# Altium footprint library ZXTN19100CZTA.PcbLib: 1 footprints
Each footprint in its own frame and in the unit in brackets; x right, y up, seen from the top. Pads: shape width x height; smd on the part's side, far side on the other; paste and mask are expansions set on the pad; w line width, h text height; cw(c..) or ccw(c..) is an arc to the next point about the centre after c.
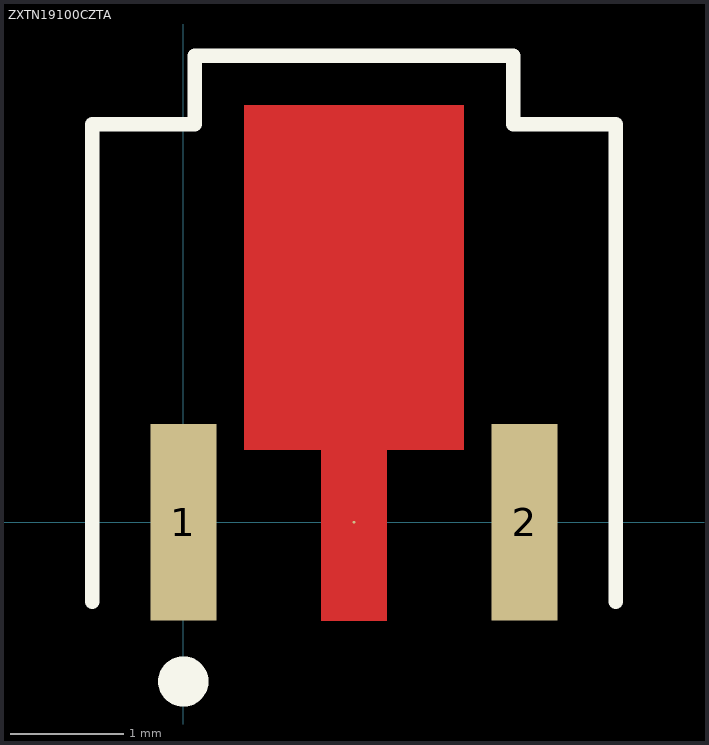
[diagram p0: the footprint, top view; thin cyan lines are the x and y axes]

## ZXTN19100CZTA [mm]
pads (3):
  rect 0.58x1.73 smd mask+0.1: 1(0,0) 2(3,0)
  round 0.025 smd mask+0.1: 3(1.5,0)
Top Layer:
  region: 2.467,0.635 2.467,3.665 0.533,3.665 0.533,0.635 1.21,0.635 1.79,0.635 1.79,-0.865 1.21,-0.865 1.21,0.635
Top Overlay:
  circle w0.254: c0,-1.4 r0.094
  lines w0.127: -0.8,-0.7 -0.8,3.5 0.1,3.5 0.1,4.1 2.9,4.1 2.9,3.5 3.8,3.5 3.8,-0.7
Mechanical 15:
  lines w0.127: 1.3,1.7 1.5,1.7 ; 1.5,1.5 1.5,1.7 ; 1.5,1.9 1.5,1.7 ; 1.7,1.7 1.5,1.7
3D body "SOT-89.step": height 1.35, standoff 0, extent -0.8,-0.75 3.8,3.5